# EAGLE library part EB-870A (library electronic-labs)
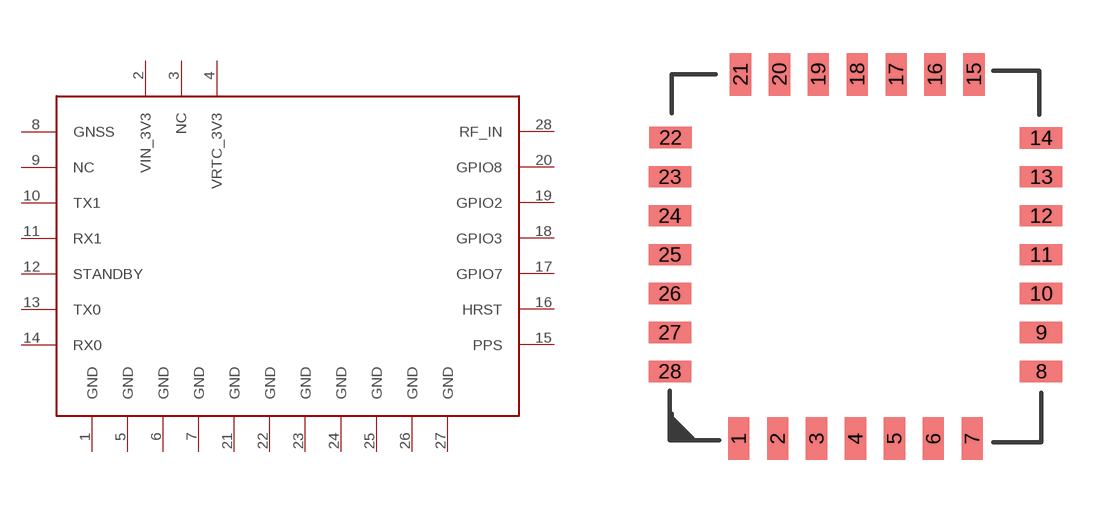
[diagram p0: symbol with the pads of EB-870A; footprint EB-870A]

Designator prefix U

## EB-870AEB-870A  [EB-870A]
1  GND  pwr
2  VIN_3V3  pwr
3  NC
4  VRTC_3V3  pwr
5  GND  pwr
6  GND  pwr
7  GND  pwr
8  GNSS
9  NC
10  TX1
11  RX1
12  STANDBY
13  TX0
14  RX0
15  PPS
16  HRST
17  GPIO7
18  GPIO3
19  GPIO2
20  GPIO8
21  GND  pwr
22  GND  pwr
23  GND  pwr
24  GND  pwr
25  GND  pwr
26  GND  pwr
27  GND  pwr
28  RF_IN

## Footprint EB-870A (pad centres in mm)
smd 0.6 x 1.2: 1 -3.15,-4.7; 2 -2.05,-4.7; 3 -0.95,-4.7; 4 0.15,-4.7; 5 1.25,-4.7; 6 2.35,-4.7; 7 3.45,-4.7; 15 3.5,5.6; 16 2.4,5.6; 17 1.3,5.6; 18 0.2,5.6; 19 -0.9,5.6; 20 -2,5.6; 21 -3.1,5.6
smd 1.2 x 0.6: 8 5.4,-2.8; 9 5.4,-1.7; 10 5.4,-0.6; 11 5.4,0.5; 12 5.4,1.6; 13 5.4,2.7; 14 5.4,3.8; 22 -5.08,3.81; 23 -5.1,2.7; 24 -5.1,1.6; 25 -5.1,0.5; 26 -5.1,-0.6; 27 -5.1,-1.7; 28 -5.1,-2.8